# EAGLE library part PIC24FV16KA301-I (library microchip)
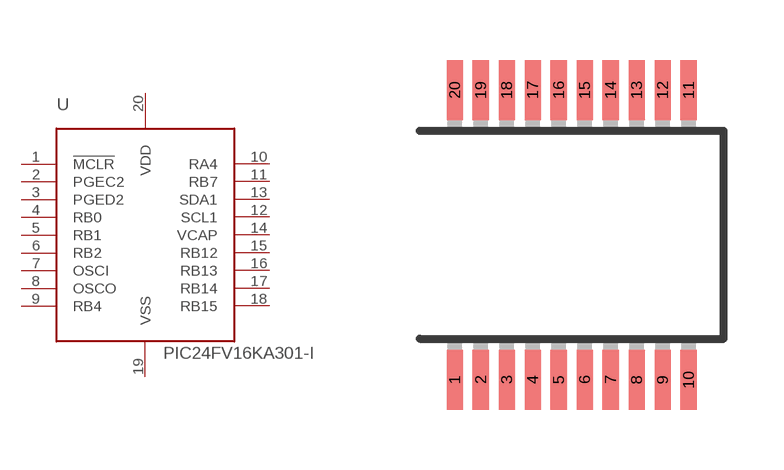
[diagram p145: symbol with the pads of SSOP20; footprint SSOP20]

Designator prefix -

## PIC24FV16KA301-ISS (DIGIKEY_PN: PIC24FV32KA301-I/SS-ND)  [SSOP20]
1  !MCLR
2  PGEC2
3  PGED2
4  RB0
5  RB1
6  RB2
7  OSCI
8  OSCO
9  RB4
10  RA4
11  RB7
12  SCL1
13  SDA1
14  VCAP
15  RB12
16  RB13
17  RB14
18  RB15
19  VSS
20  VDD

## Footprint SSOP20 (pad centres in mm)
Shrink Small Outline Package package type SS
smd 0.4 x 1.5: 1 -2.925,-3.625; 2 -2.275,-3.625; 3 -1.625,-3.625; 4 -0.975,-3.625; 5 -0.325,-3.625; 6 0.325,-3.625; 7 0.975,-3.625; 8 1.625,-3.625; 9 2.275,-3.625; 10 2.925,-3.625; 11 2.925,3.625; 12 2.275,3.625; 13 1.625,3.625; 14 0.975,3.625; 15 0.325,3.625; 16 -0.325,3.625; 17 -0.975,3.625; 18 -1.625,3.625; 19 -2.275,3.625; 20 -2.925,3.625